# Altium footprint library QFN50P350X350X100-17N.PcbLib: 1 footprints
Each footprint in its own frame and in the unit in brackets; x right, y up, seen from the top. Pads: shape width x height; smd on the part's side, far side on the other; paste and mask are expansions set on the pad; w line width, h text height; cw(c..) or ccw(c..) is an arc to the next point about the centre after c.
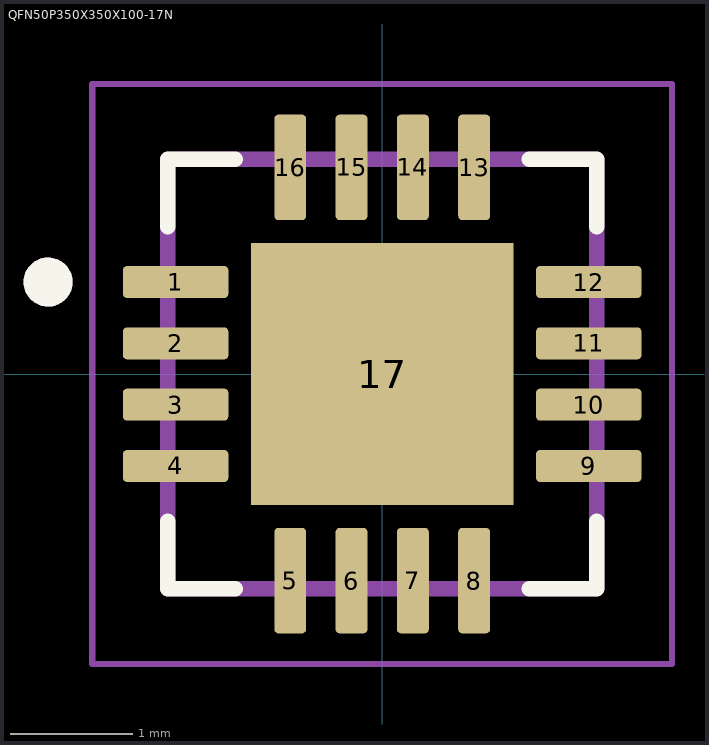
[diagram p0: the footprint, top view; thin cyan lines are the x and y axes]

## QFN50P350X350X100-17N [mm]
pads (17):
  rrect25% 0.86x0.26 smd: 1(-1.685,0.75) 2(-1.685,0.25) 3(-1.685,-0.25) 4(-1.685,-0.75) 9(1.685,-0.75) 10(1.685,-0.25) 11(1.685,0.25) 12(1.685,0.75)
  rrect25% 0.26x0.86 smd: 5(-0.75,-1.685) 6(-0.25,-1.685) 7(0.25,-1.685) 8(0.75,-1.685) 13(0.75,1.685) 14(0.25,1.685) 15(-0.25,1.685) 16(-0.75,1.685)
  rect 2.14x2.14 smd paste-0.39: 17(0,0)
Top Overlay:
  circle w0.2: c-2.725,0.75 r0.1
  lines w0.127: -1.75,-1.2 -1.75,-1.75 -1.2,-1.75 ; -1.75,1.2 -1.75,1.75 -1.2,1.75 ; 1.2,-1.75 1.75,-1.75 1.75,-1.2 ; 1.2,1.75 1.75,1.75 1.75,1.2
Assembly Top:
  circle w0.2: c-2.725,0.75 r0.1
  lines w0.127: -1.75,-1.75 1.75,-1.75 1.75,1.75 -1.75,1.75 -1.75,-1.75
Courtyard Top:
  lines w0.05: -2.365,-2.365 2.365,-2.365 2.365,2.365 -2.365,2.365 -2.365,-2.365
3D body "step_temp.STEP": height 1, standoff 0, extent -1.75,-1.75 1.75,1.75